# Altium footprint library QFN10_UDB_3x2mm.PcbLib: 1 footprints
Each footprint in its own frame and in the unit in brackets; x right, y up, seen from the top. Pads: shape width x height; smd on the part's side, far side on the other; paste and mask are expansions set on the pad; w line width, h text height; cw(c..) or ccw(c..) is an arc to the next point about the centre after c.
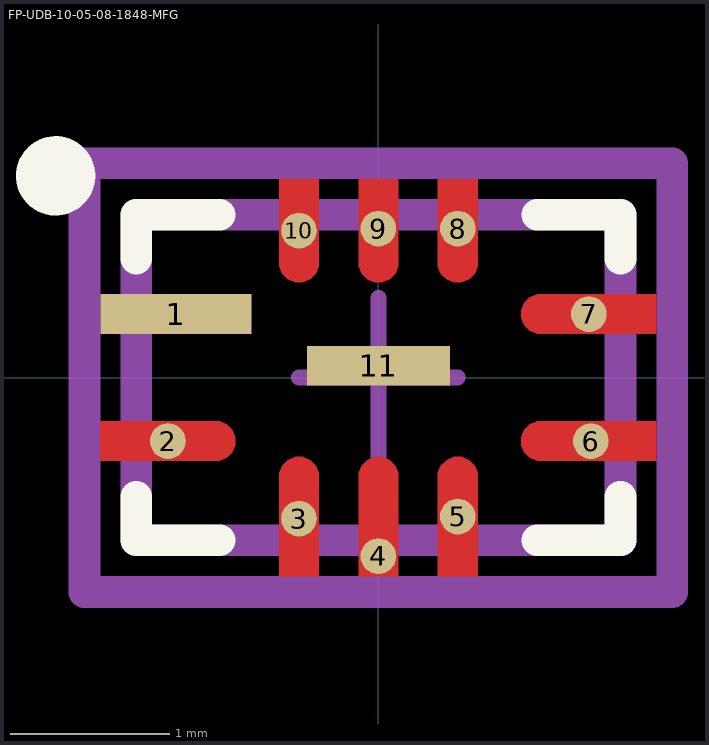
[diagram p0: the footprint, top view; thin cyan lines are the x and y axes]

## FP-UDB-10-05-08-1848-MFG [mm]
pads (11):
  rect 0.95x0.25 smd: 1(-1.275,0.4)
  round 0.225 smd paste+0 mask+0: 2(-1.325,-0.4) 3(-0.5,-0.888) 4(0,-1.125) 5(0.5,-0.875) 6(1.338,-0.4) 7(1.325,0.4) 8(0.5,0.938) 9(0,0.938) 10(-0.5,0.925)
  rect 0.9x0.25 smd: 11(0,0.075)
Top Layer:
  region: -0.375,1.25 -0.375,0.725 -0.375,0.7 -0.394,0.654 -0.429,0.619 -0.475,0.6 -0.5,0.6 -0.525,0.6 -0.571,0.619 -0.606,0.654 -0.625,0.7 -0.625,0.725 -0.625,1.25
  region: 0.125,1.25 0.125,0.725 0.125,0.7 0.106,0.654 0.071,0.619 0.025,0.6 0,0.6 -0.025,0.6 -0.071,0.619 -0.106,0.654 -0.125,0.7 -0.125,0.725 -0.125,1.25
  region: 0.625,1.25 0.625,0.725 0.625,0.7 0.606,0.654 0.571,0.619 0.525,0.6 0.5,0.6 0.475,0.6 0.429,0.619 0.394,0.654 0.375,0.7 0.375,0.725 0.375,1.25
  region: 0.375,-1.25 0.375,-0.625 0.375,-0.6 0.394,-0.554 0.429,-0.519 0.475,-0.5 0.5,-0.5 0.525,-0.5 0.571,-0.519 0.606,-0.554 0.625,-0.6 0.625,-0.625 0.625,-1.25
  region: -0.125,-1.25 -0.125,-0.625 -0.125,-0.6 -0.106,-0.554 -0.071,-0.519 -0.025,-0.5 0,-0.5 0.025,-0.5 0.071,-0.519 0.106,-0.554 0.125,-0.6 0.125,-0.625 0.125,-1.25
  region: -0.625,-1.25 -0.625,-0.625 -0.625,-0.6 -0.606,-0.554 -0.571,-0.519 -0.525,-0.5 -0.5,-0.5 -0.475,-0.5 -0.429,-0.519 -0.394,-0.554 -0.375,-0.6 -0.375,-0.625 -0.375,-1.25
  region: 1.75,0.275 1.025,0.275 1,0.275 0.954,0.294 0.919,0.329 0.9,0.375 0.9,0.4 0.9,0.425 0.919,0.471 0.954,0.506 1,0.525 1.025,0.525 1.75,0.525
  region: 1.75,-0.525 1.025,-0.525 1,-0.525 0.954,-0.506 0.919,-0.471 0.9,-0.425 0.9,-0.4 0.9,-0.375 0.919,-0.329 0.954,-0.294 1,-0.275 1.025,-0.275 1.75,-0.275
  region: -1.75,-0.275 -1.025,-0.275 -1,-0.275 -0.954,-0.294 -0.919,-0.329 -0.9,-0.375 -0.9,-0.4 -0.9,-0.425 -0.919,-0.471 -0.954,-0.506 -1,-0.525 -1.025,-0.525 -1.75,-0.525
Top Overlay:
  circle w0.25: c-2.032,1.27 r0.125
  lines w0.2: -1.525,-0.75 -1.525,-1.025 -1,-1.025 ; -1.525,0.75 -1.525,1.025 -1,1.025 ; 1,-1.025 1.525,-1.025 1.525,-0.75 ; 1,1.025 1.525,1.025 1.525,0.75
Top Assembly:
  lines w0.2: -1.85,-1.35 -1.85,1.35 1.85,1.35 1.85,-1.35 -1.85,-1.35
  text ".Designator" at 0,0.187 h1
Top 3D Body:
  lines w0.2: -1.525,-1.025 -1.525,1.025 1.525,1.025 1.525,-1.025 -1.525,-1.025
Top Courtyard:
  lines w0.2: -1.85,-1.35 -1.85,1.35 1.85,1.35 1.85,-1.35 -1.85,-1.35
Top Component Center:
  lines w0.1: -0.5,0 0.5,0 ; 0,-0.5 0,0.5
3D body "IC_Analog_Devices_LTC6409IUDB#TRMPBF_eec.STEP": height 0.25, standoff 0, extent -1.85,-1.35 1.85,1.35